# Altium footprint library Optocoupler.PCBLIB: 21 footprints (part 1 of 2)
Each footprint in its own frame and in the unit in brackets; x right, y up, seen from the top. Pads: shape width x height; smd on the part's side, far side on the other; paste and mask are expansions set on the pad; w line width, h text height; cw(c..) or ccw(c..) is an arc to the next point about the centre after c.
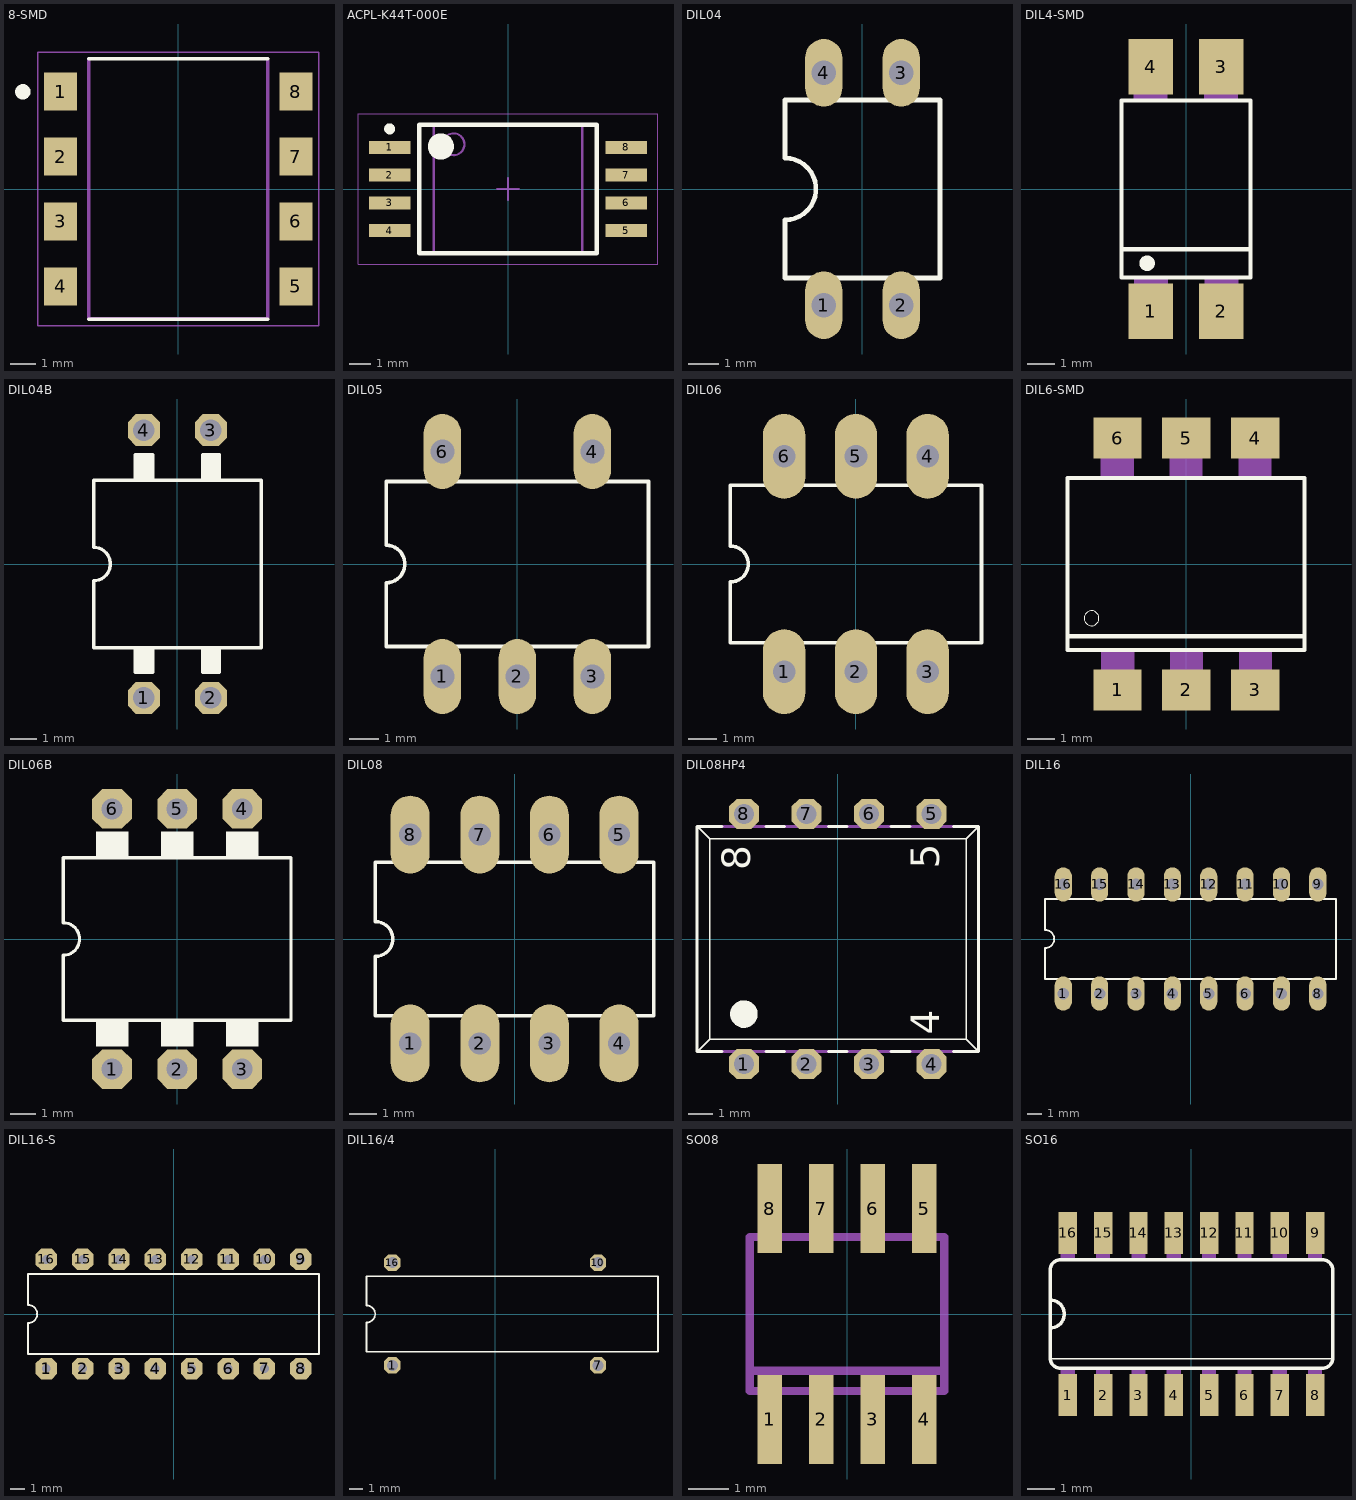
[diagram p0: the footprints below, top view; thin cyan lines are the x and y axes]

## 8-SMD [mm]
pads (8):
  rect 1.3x1.5 smd: 1(-4.6,3.81) 2(-4.6,1.27) 3(-4.6,-1.27) 4(-4.6,-3.81) 5(4.6,-3.81) 6(4.6,-1.27) 7(4.6,1.27) 8(4.6,3.81)
Top Overlay:
  circle w0.3: c-6.075,3.8 r0.15
  lines w0.127: -3.5,-5.09 3.5,-5.09 ; -3.5,5.09 3.5,5.09
Mechanical 1:
  lines w0.127: -3.5,-5.075 3.5,-5.075 3.5,5.1 -3.5,5.1 -3.5,-5.075
Mechanical 15:
  lines w0.05: -5.5,-5.35 -5.5,5.35 5.5,5.35 5.5,-5.35 -5.5,-5.35
3D body "User Library-8-pin-DIP_GW_HCPL-4200-300E.STEP": height 4.35, standoff 0.02, extent -4.875,-4.975 5.025,4.925

## ACPL-K44T-000E [mm] "SOIC, 8-Leads, Body 5,85x6,81mm, Pitch 1,27mm, IPC Low Density"
height 3.18
pads (8):
  rect 1.9x0.6 smd: 1(-5.425,1.905) 2(-5.425,0.635) 3(-5.425,-0.635) 4(-5.425,-1.905) 5(5.425,-1.905) 6(5.425,-0.635) 7(5.425,0.635) 8(5.425,1.905)
Top Overlay:
  circle w0.25: c-5.425,2.755 r0.125
  circle w0.6: c-3.075,1.95 r0.3
  lines w0.2: -4.075,-2.95 -4.075,2.95 4.075,2.95 4.075,-2.95 -4.075,-2.95
Mechanical 13:
  circle w0.1: c-2.5,2.05 r0.5
  lines w0.1: -3.4,-2.95 -3.4,2.95 3.4,2.95 3.4,-2.95 -3.4,-2.95
Mechanical 15:
  lines w0.05: -6.875,-3.45 -6.875,3.45 6.875,3.45 6.875,-3.45 -6.875,-3.45
  lines w0.1: -0.5,0 0.5,0 ; 0,-0.5 0,0.5
3D body "ACPL-K44T-000E.step": height 3.18, standoff 0, extent -5.75,-2.95 5.75,2.95

## DIL04 [mil]
pads (4):
  oval 48x87.36 hole 32: 1(-50,-150) 2(50,-150) 3(50,150) 4(-50,150)
Top Overlay:
  lines w6: -100,-115 100,-115 100,115 -100,115 -100,40 cw(c-100,0) -100,-40 -100,-115
3D body "DIP4-2.step": height 169.29, standoff -118.11, extent -90.04,-153 90.27,156.85

## DIL4-SMD [mm]
pads (4):
  rect 1.6x2 smd: 1(-1.27,-4.389) 2(1.27,-4.389) 3(1.27,4.389) 4(-1.27,4.389)
Top Overlay:
  circle w0.305: c-1.397,-2.667 r0.127
  lines w0.152: -2.315,-2.164 2.315,-2.164 ; 2.315,-2.164 2.315,3.18 -2.315,3.18 -2.315,-3.18 2.315,-3.18 2.315,-2.164
Mechanical 16:
  rectangle: -1.875,-5.15 -0.65,-3.2
  rectangle: 0.665,-5.15 1.89,-3.2
  region: 1.875,5.15 0.65,5.15 0.65,3.2 1.875,3.2
  region: -0.665,5.15 -1.89,5.15 -1.89,3.2 -0.665,3.2
3D body "User Library-DIP4_opto_iso.step": height 3.89, standoff -0.01, extent -2.441,-4.99 2.39,5.04

## DIL04B [mil]
pads (4):
  oct 48x48 hole 32: 1(-50,-200) 2(50,-200) 3(50,200) 4(-50,200)
Top Overlay:
  rectangle: 40,-160 65,-125
  rectangle: -65,-160 -35,-125
  rectangle: -65,125 -35,165
  rectangle: 40,125 65,165
  lines w5: -63,-125 -63,-162 -37,-162 -37,-125 ; -63,-125 -125,-125 -125,-25 ccw(c-125,0) -125,25 -125,125 -63,125 ; -63,-125 -37,-125 ; -63,125 -63,163 -37,163 -37,125 ; -63,125 -37,125 ; -37,-125 38,-125 ; -37,125 38,125 ; 38,-125 38,-162 63,-162 63,-125 ; 38,-125 63,-125 ; 38,125 38,163 63,163 63,125 ; 38,125 63,125 ; 63,-125 125,-125 125,125 63,125

## DIL05 [mil]
pads (5):
  oval 50x100 hole 32: 1(-100,-150) 2(0,-150) 3(100,-150) 4(100,150) 6(-100,150)
Top Overlay:
  lines w5: -175,-110 175,-110 175,110 -175,110 -175,25 cw(c-175,0) -175,-25 -175,-110
3D body "DIP5.step": height 169.29, standoff -118.11, extent -141,-153 139.31,156.84

## DIL06 [mil]
pads (6):
  oval 59.06x118.12 hole 31.5: 1(-100,-150) 2(0,-150) 3(100,-150) 4(100,150) 5(0,150) 6(-100,150)
Top Overlay:
  lines w5: -175,-110 -175,-25 ccw(c-175,0) -175,25 -175,110 175,110 175,-110 -175,-110
3D body "DIP6-2.STEP": height 169.29, standoff -118.11, extent -140,-155 140.32,154.84

## DIL6-SMD [mil]
pads (6):
  rect 70.08x59.84 smd: 1(-100,-182.87) 2(0,-182.87) 3(100,-182.87) 4(100,182.87) 5(0,182.87) 6(-100,182.87)
Top Overlay:
  circle w0: c-137.8,-78.74 r10.87
  lines w6: -168.7,-104.88 171.65,-104.88 ; 171.65,-104.88 171.65,125.2 -172.64,125.2 -172.64,-125.2 171.65,-125.2 171.65,-104.88
Mechanical 16:
  rectangle: -123.82,-194.88 -75.59,-125.98
  rectangle: -23.82,-194.88 24.41,-125.98
  rectangle: 76.18,-194.88 124.41,-125.98
  region: 123.82,194.88 75.59,194.88 75.59,125.98 123.82,125.98
  region: 23.82,194.88 -24.41,194.88 -24.41,125.98 23.82,125.98
  region: -76.18,194.88 -124.41,194.88 -124.41,125.98 -76.18,125.98
3D body "DIP6-OP7.STEP": height 172.26, standoff 0.5, extent -169.29,-200.75 169.3,204.76

## DIL06B [mil]
pads (6):
  oct 61.02x61.02 hole 32: 1(-100,-200) 2(0,-200) 3(100,-200) 4(100,200) 5(0,200) 6(-100,200)
Top Overlay:
  rectangle: -25,-165 25,-125
  rectangle: 75,-165 125,-125
  rectangle: -125,-165 -75,-125
  rectangle: -125,125 -75,165
  rectangle: -25,125 25,165
  rectangle: 75,125 125,165
  lines w5: -175,-125 -175,-25 ccw(c-175,0) -175,25 -175,125 175,125 175,-125 -175,-125

## DIL08 [mil]
pads (8):
  oval 56x112 hole 32: 1(-150,-150) 2(-50,-150) 3(50,-150) 4(150,-150) 5(150,150) 6(50,150) 7(-50,150) 8(-150,150)
Top Overlay:
  lines w5: -200,-110 200,-110 200,110 -200,110 -200,25 cw(c-200,0) -200,-25 -200,-110
3D body "CircuitWorks-DIL 8 MINIDIP IC.step": height 188.98, standoff -129.92, extent -197.91,-154.92 187.91,154.93

## DIL08HP4 [mil]
pads (8):
  oct 48x48 hole 32: 1(-150,-200) 2(-50,-200) 3(50,-200) 4(150,-200) 5(150,200) 6(50,200) 7(-50,200) 8(-150,200)
Top Overlay:
  circle w24: c-150,-120 r10
  lines w2: -225,-180 -205,-160 ; -225,180 -205,160 ; 225,-180 205,-160 ; 225,180 205,160 ; -205,-160 -205,160 ; -205,-160 205,-160 ; -205,160 205,160 ; 205,-160 205,160
  lines w5: -185,-180 -225,-180 -225,180 -185,180 ; -115,-180 -85,-180 ; -115,180 -85,180 ; -15,-180 15,-180 ; -15,180 15,180 ; 85,-180 115,-180 ; 85,180 115,180 ; 185,-180 225,-180 225,180 185,180
  text "4" at 177,-153 h77.5
  text "5" at 177,112 h77.5
  text "8" at -125,110 h77.5
Mechanical 16:
  lines w5: -185,-180 -115,-180 ; -185,180 -115,180 ; -85,-180 -15,-180 ; -85,180 -15,180 ; 15,-180 85,-180 ; 15,180 85,180 ; 115,-180 185,-180 ; 115,180 185,180

## DIL16 [mil]
pads (16):
  oval 47.25x94.5 hole 31.5: 1(-350,-150) 2(-250,-150) 3(-150,-150) 4(-50,-150) 5(50,-150) 6(150,-150) 7(250,-150) 8(350,-150) 9(350,150) 10(250,150) 11(150,150) 12(50,150) 13(-50,150) 14(-150,150) 15(-250,150) 16(-350,150)
Top Overlay:
  lines w5: -400,-110 -400,-25 ccw(c-400,0) -400,25 -400,110 400,110 400,-110 -400,-110
3D body "CircuitWorks-DIP 16 IC.step": height 200.79, standoff -129.92, extent -400.69,-157.92 386.71,151.92

## DIL16-S [mil]
pads (16):
  oct 59.06x59.06 hole 24: 1(-350,-150) 2(-250,-150) 3(-150,-150) 4(-50,-150) 5(50,-150) 6(150,-150) 7(250,-150) 8(350,-150) 9(350,150) 10(250,150) 11(150,150) 12(50,150) 13(-50,150) 14(-150,150) 15(-250,150) 16(-350,150)
Top Overlay:
  lines w5: -400,-110 -400,-25 ccw(c-400,0) -400,25 -400,110 400,110 400,-110 -400,-110
3D body "CircuitWorks-DIP 16 IC.step": height 200.79, standoff -129.92, extent -398.69,-153.92 388.71,155.92

## DIL16/4 [mil]
pads (4):
  oct 48x48 hole 32: 1(-300,-150) 7(300,-150) 10(300,150) 16(-300,150)
Top Overlay:
  lines w5: -375,-110 -375,-25 ccw(c-375,0) -375,25 -375,110 475,110 475,-110 -375,-110
3D body "DIPN-16P.step": height 202.76, standoff 17.72, extent -383.07,-133 483.07,128.42
3D body "PINDIP.step": height 90.55, standoff -118.11, extent -323.24,-158.56 -276,-131
3D body "PINDIP.step": height 90.55, standoff -118.11, extent 276.38,-159 323.62,-131.44
3D body "PINDIP.step": height 90.55, standoff -118.11, extent 275.76,125 323,152.56
3D body "PINDIP.step": height 90.55, standoff -118.11, extent -323.24,125 -276,152.56

## SO08 [mil]
pads (8):
  rect 23.62x86.61 smd: 1(-75,-102.36) 2(-25,-102.36) 3(25,-102.36) 4(75,-102.36) 5(75,102.36) 6(25,102.36) 7(-25,102.36) 8(-75,102.36)
Mechanical 16:
  rectangle: -84.65,78.74 -65.35,122.05
  rectangle: -34.65,78.74 -15.35,122.05
  rectangle: 15.35,78.74 34.65,122.05
  rectangle: 65.35,78.74 84.65,122.05
  rectangle: 65.35,-122.05 84.65,-78.74
  rectangle: 15.35,-122.05 34.65,-78.74
  rectangle: -34.65,-122.05 -15.35,-78.74
  rectangle: -84.65,-122.05 -65.35,-78.74
  lines w7.87: -94.49,-55.12 94.49,-55.12 ; -94.49,-55.12 -94.49,74.8 94.49,74.8 94.49,-55.12 ; -94.49,-55.12 -94.49,-74.8 94.49,-74.8 94.49,-55.12
3D body "User Library-so8-3.step": height 66.93, standoff 0, extent -96.46,-120.1 96.46,116.12

## SO16 [mil]
pads (16):
  rect 26x59.06 smd: 1(-175,-114.75) 2(-125,-114.75) 3(-75,-114.75) 4(-25,-114.75) 5(25,-114.75) 6(75,-114.75) 7(125,-114.75) 8(175,-114.75) 9(175,114.75) 10(125,114.75) 11(75,114.75) 12(25,114.75) 13(-25,114.75) 14(-75,114.75) 15(-125,114.75) 16(-175,114.75)
Top Overlay:
  lines w2: -200,-63 200,-63
  lines w5: -200,-20 ccw(c-200,0) -200,20 ; -200,-62 ccw(c-185,-62) -185,-77 185,-77 ccw(c185,-62) 200,-62 200,62 ccw(c185,62) 185,77 -185,77 ccw(c-185,62) -200,62 -200,-62
Mechanical 16:
  rectangle: 165,77 185,122
  rectangle: 115,77 135,122
  rectangle: 65,77 85,122
  rectangle: 15,77 35,122
  rectangle: 165,-122 185,-77
  rectangle: 115,-122 135,-77
  rectangle: 65,-122 85,-77
  rectangle: 15,-122 35,-77
  rectangle: -185,77 -165,122
  rectangle: -135,77 -115,122
  rectangle: -85,77 -65,122
  rectangle: -35,-122 -15,-77
  rectangle: -85,-121 -65,-76
  rectangle: -135,-122 -115,-77
  rectangle: -185,-122 -165,-77
  rectangle: -35,77 -15,122
3D body "User Library-so16.step": height 66.93, standoff 0, extent -200,-118.11 201.57,118.11